# Altium integrated library WE_WR-TBL_Rising Cage System_9.52 mm_rev15a.IntLib: 2 symbols
Pins are listed as number, name and electrical type; pins without a type are passive.

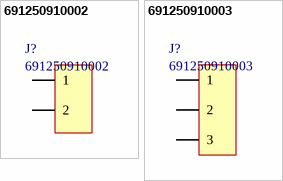
[diagram p0: symbols 691250910002 to 691250910003]

## 691250910002
designator J?
Horizontal Cable Entry with Rising Cage Clamp, Serie 2509 - 9.52mm; Manufacturer: Wurth Elektronik; ComponentLink1 Description: Manufacturer; ComponentLink2 Description: Datasheet; NoPins: 2; ComponentLink1 URL: http://www.we-online.com; ComponentLink2 URL: http://katalog.we-online.de/em/datasheet/6912509100xx.pdf; Created By: Baojun Chen; Created Date: 27.Aug.2015; PartNo: 691250910002
footprint 691250910002 (Serie 2509 - 9.52 mm _ 2 pins)
pins: 1, 2

## 691250910003
designator J?
Horizontal Cable Entry with Rising Cage Clamp, Serie 2509 - 9.52mm; Manufacturer: Wurth Elektronik; ComponentLink1 Description: Manufacturer; ComponentLink2 Description: Datasheet; NoPins: 3; ComponentLink1 URL: http://www.we-online.com; ComponentLink2 URL: http://katalog.we-online.de/em/datasheet/6912509100xx.pdf; Created By: Baojun Chen; Created Date: 27.Aug.2015; PartNo: 691250910003
footprint 691250910003 (Serie 2509 - 9.52 mm _ 3 pins)
pins: 1, 2, 3